# EAGLE library part TPS54202 (library pixel)
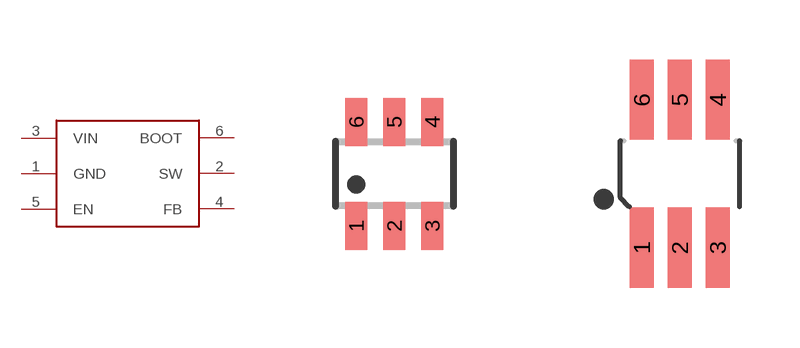
[diagram p26: symbol with the pads of TEXAS_SOT23-6; footprints TEXAS_SOT23-6, SOT-23-6-LL]

Designator prefix -

## TPS54202  [TEXAS_SOT23-6]
1  GND
2  SW
3  VIN
4  FB
5  EN
6  BOOT

## TPS54202LL  [SOT-23-6-LL]
Pads as for TEXAS_SOT23-6

## Footprint TEXAS_SOT23-6 (pad centres in mm)
SOT-23 - DBV 0.95 mm pitch
smd 0.55 x 1.2: 1 -0.95,-1.3; 2 0,-1.3; 3 0.95,-1.3; 4 0.95,1.3; 5 0,1.3; 6 -0.95,1.3

## Footprint SOT-23-6-LL (pad centres in mm)
smd 0.6 x 2: 1 -0.95,-1.85; 2 0,-1.85; 3 0.95,-1.85; 4 0.95,1.85; 5 0,1.85; 6 -0.95,1.85